# Altium schematic symbol library PCB_Project.SCHLIB: 17 symbols
Pins are listed as number, name and electrical type; pins without a type are passive.

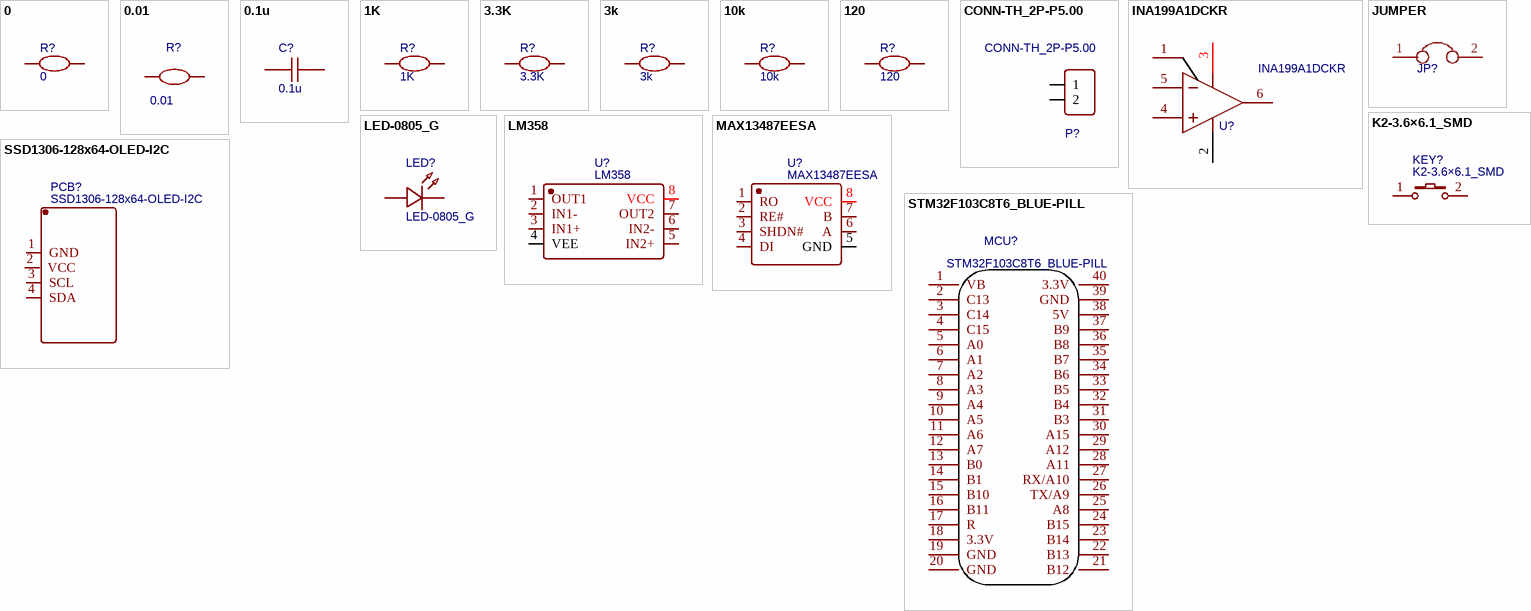
[diagram p0: symbols 0 to STM32F103C8T6_BLUE-PILL]

## 0
designator R?
nameAlias: Value(Ω); Contributor: LCEDA_Lib; spicePre: R; spiceSymbolName: R_0805_EU
footprint R0805
pins: 1, 2

## 0.01
designator R?
nameAlias: Value(Ω); Contributor: LCEDA_Lib; spicePre: R; spiceSymbolName: R_2512_EU
footprint R2512
pins: 1, 2

## 0.1u
designator C?
nameAlias: Value(F); Contributor: LCEDA_Lib; spicePre: C; spiceSymbolName: C_0805_US
footprint C0805
pins: 1, 2

## 1K
designator R?
nameAlias: Value(Ω); Contributor: LCEDA_Lib; spicePre: R; spiceSymbolName: R_2512_EU
footprint C0805
pins: 1, 2

## 3.3K
designator R?
nameAlias: Value(Ω); Contributor: LCEDA_Lib; spicePre: R; spiceSymbolName: R_0805_EU
footprint R0805
pins: 1, 2

## 3k
designator R?
nameAlias: Value(Ω); Contributor: LCEDA_Lib; spicePre: R; spiceSymbolName: R_2512_EU
footprint C0805
pins: 1, 2

## 10k
designator R?
nameAlias: Value(Ω); Contributor: LCEDA_Lib; spicePre: R; spiceSymbolName: R_2512_EU
footprint C0805
pins: 1, 2

## 120
designator R?
nameAlias: Value(Ω); Contributor: LCEDA_Lib; spicePre: R; spiceSymbolName: R_0805_EU
footprint R0805
pins: 1, 2

## CONN-TH_2P-P5.00
designator P?
Contributor: LCEDA_Lib; BOM_Supplier: LCSC; spicePre: P; spiceSymbolName: CONN-TH_2P-P5.00
footprint CONN-TH_2P-P5.00
pins: 1, 2

## INA199A1DCKR
designator U?
BOM_Manufacturer: Texas Instruments; BOM_Manufacturer Part: INA199A3DCKR; Contributor: LCSC; SMT Type: Extend; BOM_Supplier: LCSC; BOM_Supplier Part: C132098; BOM_JLCPCB SMD: Yes; spicePre: U; spiceSymbolName: INA199A3DCKR
footprint SOT-363_L2.0-W1.3-P0.65-LS2.1-BR
pins: 1 REF, 2 GND, 3 V+, 4 IN+, 5 IN-, 6 OUT

## JUMPER
designator JP?  (value not drawn)
spicePre: J; spiceSymbolName: JUMPER
footprint HDR-F-2.54_1X2
pins: 1, 2

## K2-3.6×6.1_SMD
designator KEY?
BOM_Manufacturer Part: K2-1107ST-A4SW-06; Contributor: LCEDA_Lib; 制造商: 韩国韩荣; BOM_Supplier Part: C118141; BOM_Supplier: LCSC; spicePre: K; spiceSymbolName: K2-3.6×6.1_SMD
footprint KEY-SMD_2P-L6.2-W3.6-LS8.0
pins: 1, 2

## LED-0805_G
designator LED?
BOM_Manufacturer: EVERLIGHT(台湾亿光); BOM_Manufacturer Part: 19-217/GHC-YR1S2/3T; Contributor: LCEDA_Lib; BOM_Supplier Part: C72043; BOM_Supplier: LCSC; spicePre: L; spiceSymbolName: LED-0603_G
footprint LED0805_GREEN
pins: 1, 2

## LM358
designator U?
BOM_Manufacturer: BLUE ROCKET; Contributor: LCSC; SMT Type: Extend; BOM_Supplier: LCSC; BOM_Supplier Part: C328566; BOM_Manufacturer Part: LM358; BOM_JLCPCB SMD: Yes; spicePre: U; spiceSymbolName: LM358
footprint SOP-8_L4.9-W3.9-P1.27-LS6.0-BL
pins: 1 OUT1, 2 IN1-, 3 IN1+, 4 VEE, 5 IN2+, 6 IN2-, 7 OUT2, 8 VCC

## MAX13487EESA
designator U?
BOM_Manufacturer: MAXIM; SMT Type: Extend; BOM_Supplier: LCSC; BOM_Manufacturer Part: MAX13487EESA; image: //image.lceda.cn/szlcsc/C18347.jpg; BOM_Supplier Part: C18347; BOM_LCSC Assembly: Yes; spicePre: U; spiceSymbolName: MAX13487EESA
footprint SOIC-8_L4.9-W3.9-P1.27-LS6.0-BL
pins: 1 RO, 2 RE#, 3 SHDN#, 4 DI, 5 GND, 6 A, 7 B, 8 VCC

## SSD1306-128x64-OLED-I2C
designator PCB?
sourceId: wICUcuL3l; spicePre: X; timeStamp: 1456014235; spiceSymbolName: SSD1306-128x64-OLED-I2C
footprint SSD1306_GNDVCC
pins: 1 GND, 2 VCC, 3 SCL, 4 SDA

## STM32F103C8T6_BLUE-PILL
designator MCU?
Contributor: lzbsuzhou; spicePre: M; spiceSymbolName: STM32F103C8T6_BLUE-PILL
footprint STM32F103C8T6_BLUE-PILL
pins: 1 VB, 2 C13, 3 C14, 4 C15, 5 A0, 6 A1, 7 A2, 8 A3, 9 A4, 10 A5, 11 A6, 12 A7, 13 B0, 14 B1, 15 B10, 16 B11, 17 R, 18 3.3V, 19 GND, 20 GND, 21 B12, 22 B13, 23 B14, 24 B15, 25 A8, 26 TX/A9, 27 RX/A10, 28 A11, 29 A12, 30 A15, 31 B3, 32 B4, 33 B5, 34 B6, 35 B7, 36 B8, 37 B9, 38 5V, 39 GND, 40 3.3V